# Altium schematic symbol library power_supplies.SchLib: 7 symbols
Pins are listed as number, name and electrical type; pins without a type are passive.

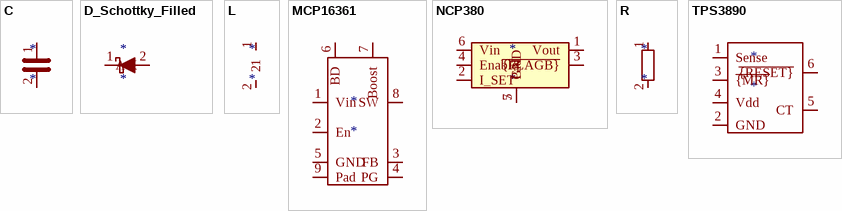
[diagram p0: symbols C to TPS3890]

## C
designator *
pins: 1, 2

## D_Schottky_Filled
designator *
pins: 1 K, 2 A

## L
designator *
pins: 1, 2

## MCP16361
designator *
pins: 1 Vin, 2 En, 3 FB, 4 PG, 5 GND, 6 BD, 7 Boost, 8 SW, 9 Pad

## NCP380
designator *
pins: 1 Vout, 2 I_SET, 3 ~{{FLAGB}}, 4 Enable, 5 GND, 6 Vin, 7 Pad

## R
designator *
pins: 1, 2

## TPS3890
designator *
pins: 1 Sense, 2 GND, 3 ~{{MR}}, 4 Vdd, 5 CT, 6 ~{{RESET}}